# EAGLE library part 4455-B22 (library con-molex-kk)
RECEPTACAL
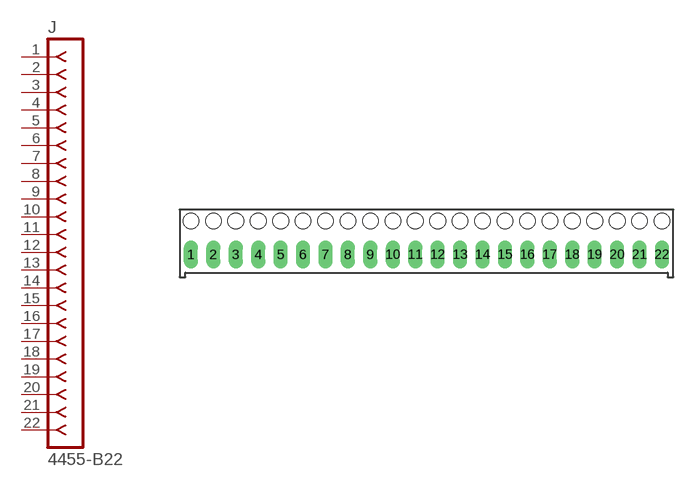
[diagram p20: symbol with the pads of 4455-B22; footprint 4455-B22]

Designator prefix J

## 4455-B22  [4455-B22]
1  1  pas
2  2  pas
3  3  pas
4  4  pas
5  5  pas
6  6  pas
7  7  pas
8  8  pas
9  9  pas
10  10  pas
11  11  pas
12  12  pas
13  13  pas
14  14  pas
15  15  pas
16  16  pas
17  17  pas
18  18  pas
19  19  pas
20  20  pas
21  21  pas
22  22  pas

## Footprint 4455-B22 (pad centres in mm)
RECEPTACAL Vertical, Bottom Entry, 0.1" pitch
drill 1.067 long: 1 -26.67,0; 2 -24.13,0; 3 -21.59,0; 4 -19.05,0; 5 -16.51,0; 6 -13.97,0; 7 -11.43,0; 8 -8.89,0; 9 -6.35,0; 10 -3.81,0; 11 -1.27,0; 12 1.27,0; 13 3.81,0; 14 6.35,0; 15 8.89,0; 16 11.43,0; 17 13.97,0; 18 16.51,0; 19 19.05,0; 20 21.59,0; 21 24.13,0; 22 26.67,0
hole 1.778 at -26.67,3.81
hole 1.778 at -24.13,3.81
hole 1.778 at -21.59,3.81
hole 1.778 at -19.05,3.81
hole 1.778 at -16.51,3.81
hole 1.778 at -13.97,3.81
hole 1.778 at -11.43,3.81
hole 1.778 at -8.89,3.81
hole 1.778 at -6.35,3.81
hole 1.778 at -3.81,3.81
hole 1.778 at -1.27,3.81
hole 1.778 at 1.27,3.81
hole 1.778 at 3.81,3.81
hole 1.778 at 6.35,3.81
hole 1.778 at 8.89,3.81
hole 1.778 at 11.43,3.81
hole 1.778 at 13.97,3.81
hole 1.778 at 16.51,3.81
hole 1.778 at 19.05,3.81
hole 1.778 at 21.59,3.81
hole 1.778 at 24.13,3.81
hole 1.778 at 26.67,3.81